# Altium footprint library CR1220_BATT.PcbLib: 1 footprints
Each footprint in its own frame and in the unit in brackets; x right, y up, seen from the top. Pads: shape width x height; smd on the part's side, far side on the other; paste and mask are expansions set on the pad; w line width, h text height; cw(c..) or ccw(c..) is an arc to the next point about the centre after c.
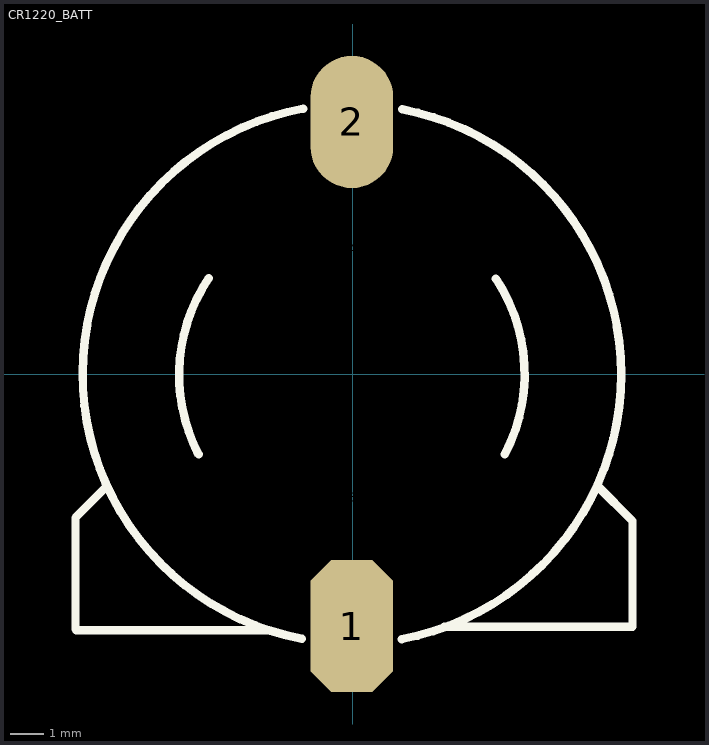
[diagram p0: the footprint, top view; thin cyan lines are the x and y axes]

## CR1220_BATT [mm] "纽扣电池座"
pads (4):
  oct 2.5x4 smd: 1(-0.023,-7.62)
  oval 2.5x4 smd: 2(-0.023,7.62)
  round 0.508 on Top Solder: 3(0.023,-3.72) 4(0.023,3.78)
Top Overlay:
  lines w0.254: -7.44,-3.404 -8.38,-4.343 -8.38,-5.512 -8.38,-7.722 -8.354,-7.747 -2.538,-7.747 ; -4.659,-2.431 cw(c-0.023,-0.025) -4.357,2.889 ; -1.533,-8.003 cw(c-0.013,0.006) -1.491,8.024 ; 1.489,-8.016 ccw(c-0.033,-0.006) 1.496,8.002 ; 2.771,-7.645 8.461,-7.645 8.461,-4.851 8.461,-4.445 7.394,-3.378 ; 4.331,2.885 cw(c-0.023,0) 4.602,-2.427